# EAGLE library part STM32F030F4 (library ARM926SBC)
ARM Cortex-M0 MCU, 48MHz
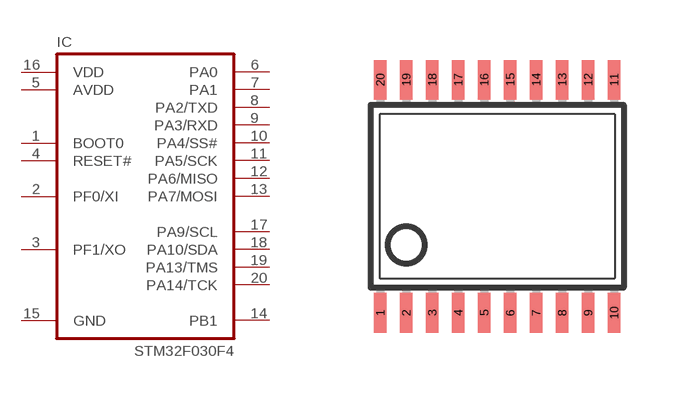
[diagram p6: symbol with the pads of TSSOP20; footprint TSSOP20]

Designator prefix IC

## STM32F030F4P  [TSSOP20]
1  BOOT0  in
2  PF0/XI
3  PF1/XO
4  RESET#  in
5  AVDD  pwr
6  PA0
7  PA1
8  PA2/TXD
9  PA3/RXD
10  PA4/SS#
11  PA5/SCK
12  PA6/MISO
13  PA7/MOSI
14  PB1
15  GND  pwr
16  VDD  pwr
17  PA9/SCL
18  PA10/SDA
19  PA13/TMS
20  PA14/TCK

## Footprint TSSOP20 (pad centres in mm)
Thin Shrink Small Outline Plastic 20 MAX3223-MAX3243.pdf
smd 0.305 x 0.991: 1 -2.925,-2.918; 2 -2.275,-2.918; 3 -1.625,-2.918; 4 -0.975,-2.918; 5 -0.325,-2.918; 6 0.325,-2.918; 7 0.975,-2.918; 8 1.625,-2.918; 9 2.275,-2.918; 10 2.925,-2.918; 11 2.925,2.918; 12 2.275,2.918; 13 1.625,2.918; 14 0.975,2.918; 15 0.325,2.918; 16 -0.325,2.918; 17 -0.975,2.918; 18 -1.625,2.918; 19 -2.275,2.918; 20 -2.925,2.918